# EAGLE library part SI7020-A20-GM (library SI7020-A20-GM)
Digital Temperature/Humidity Sensor 6-Pin DFN T/R Check availability <https://pricing.snapeda.com/parts/SI7020-A20-GM/Silicon%20Labs/view-part?ref=eda>
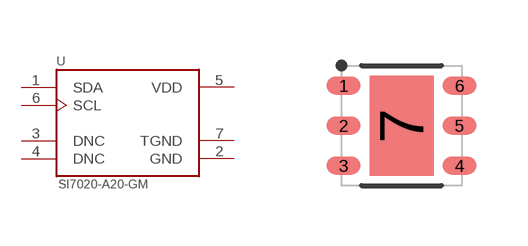
[diagram p0: symbol with the pads of SON100P300X300X80-7N; footprint SON100P300X300X80-7N]

Designator prefix U

## SI7020-A20-GM (Availability: In Stock; Description: Humidity Temperature Sensor 0 ~ 100% RH I²C ±4% RH 18 s Surface Mount; MF: Silicon Labs; MP: SI7020-A20-GM; Package: DFN-6 Silicon Labs; Price: None; Purchase-URL: https://pricing.snapeda.com/search/part/SI7020-A20-GM/?ref=eda)  [SON100P300X300X80-7N]
1  SDA
2  GND  pwr
3  DNC
4  DNC
5  VDD  pwr
6  SCL
7  TGND

## Footprint SON100P300X300X80-7N (pad centres in mm)
smd 0.85 x 0.45: 1 -1.45,1; 2 -1.45,0; 3 -1.45,-1; 4 1.45,-1; 5 1.45,0; 6 1.45,1
smd 1.6 x 2.5: 7 0,0